# Altium footprint library 0805-FUSE.PcbLib: 1 footprints
Each footprint in its own frame and in the unit in brackets; x right, y up, seen from the top. Pads: shape width x height; smd on the part's side, far side on the other; paste and mask are expansions set on the pad; w line width, h text height; cw(c..) or ccw(c..) is an arc to the next point about the centre after c.
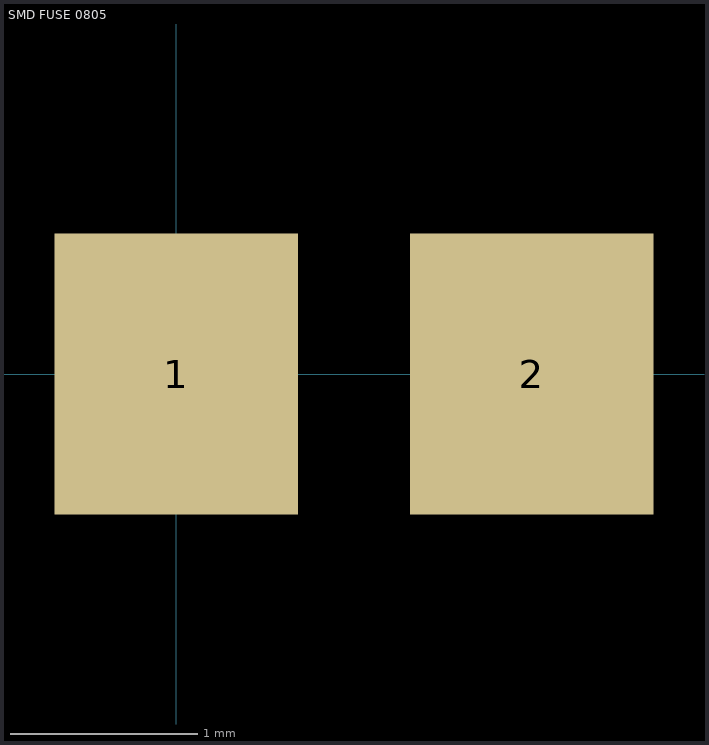
[diagram p0: the footprint, top view; thin cyan lines are the x and y axes]

## SMD FUSE 0805 [mm]
pads (2):
  rect 1.3x1.5 smd: 1(0,0) 2(1.9,0)
Mechanical 13:
  lines w0.1: -0.05,-0.635 -0.05,0.635 ; 1.95,-0.635 1.95,0.635
3D body "User Library-SMD Resistors.step": height 0.46, standoff 0.01, extent 0.016,-0.63 2.016,0.63